# Altium footprint library DI_DO-201AD.PcbLib: 1 footprints
Each footprint in its own frame and in the unit in brackets; x right, y up, seen from the top. Pads: shape width x height; smd on the part's side, far side on the other; paste and mask are expansions set on the pad; w line width, h text height; cw(c..) or ccw(c..) is an arc to the next point about the centre after c.
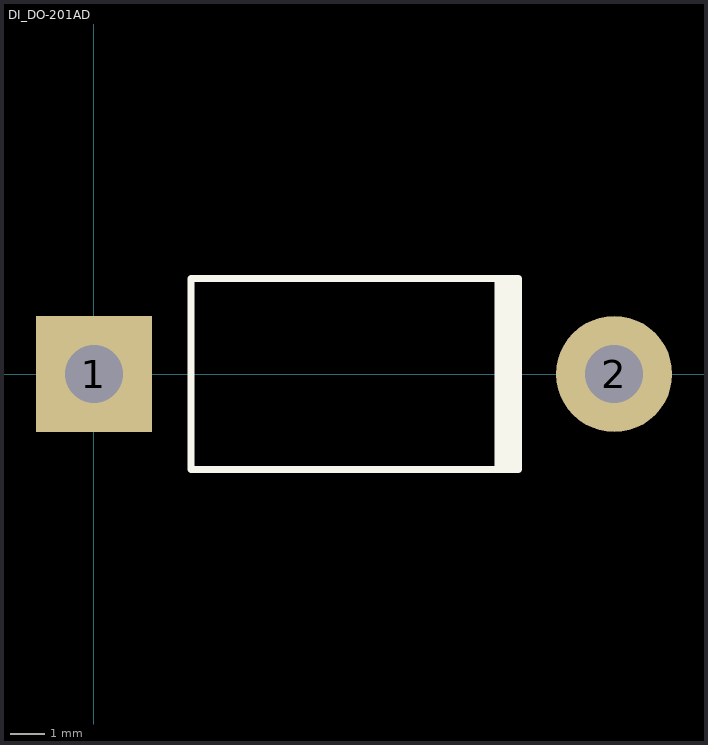
[diagram p0: the footprint, top view; thin cyan lines are the x and y axes]

## DI_DO-201AD [mm] "Diode, Axial; Body 9.5 x 5.6 mm (LxDia. max), Lead Dia. 1.32 mm (max)"
height 5.6
pads (2):
  rect 3.4x3.4 hole 1.7: 1(0,0)
  round 3.4 hole 1.7: 2(15.24,0)
Top Overlay:
  rectangle: 11.742,-2.8 12.542,2.8
  lines w0.2: 12.442,-2.8 2.842,-2.8 2.842,2.8 12.442,2.8
3D body: height 5.6, standoff -6, extent -0.66,-2.8 15.9,2.8